# EAGLE library part ADUM4160 (library own_parts2)
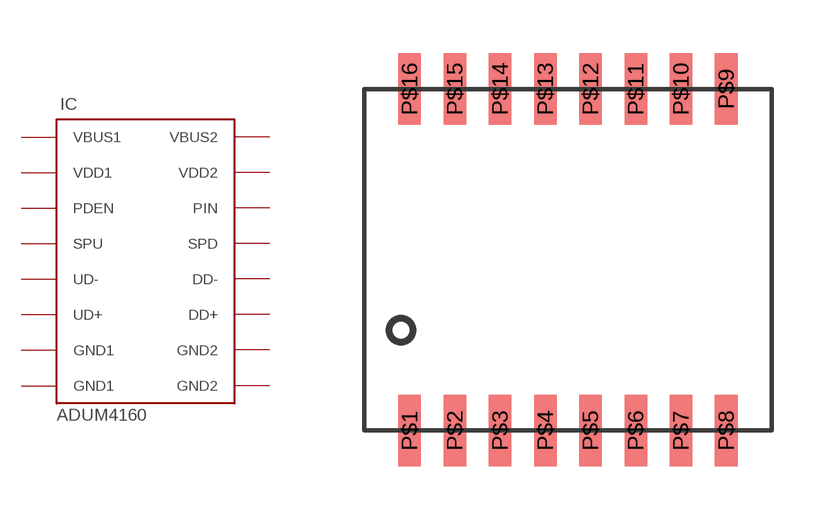
[diagram p30: symbol with the pads of SOIC16-RI-16-1; footprint SOIC16-RI-16-1]

Designator prefix IC

## ADUM4160  [SOIC16-RI-16-1]
P$1  VBUS1
P$2  GND1
P$3  VDD1
P$4  PDEN
P$5  SPU
P$6  UD-
P$7  UD+
P$8  GND1
P$9  GND2
P$10  DD+
P$11  DD-
P$12  PIN
P$13  SPD
P$14  VDD2
P$15  GND2
P$16  VBUS2

## Footprint SOIC16-RI-16-1 (pad centres in mm)
SMALL OUTLINE INTEGRATED CIRCUIT 16-Pin (150-Mil) SOIC Source: http://www.cypress.com .. 38-12025_0P_V.pdf
smd 0.635 x 2: P$1 0,0; P$2 1.27,0; P$3 2.54,0; P$4 3.81,0; P$5 5.08,0; P$6 6.35,0; P$7 7.62,0; P$8 8.89,0; P$9 8.89,9.6; P$10 7.62,9.6; P$11 6.35,9.6; P$12 5.08,9.6; P$13 3.81,9.6; P$14 2.54,9.6; P$15 1.27,9.6; P$16 0,9.6